# Altium schematic symbol library RC0603FR-07470RL.SchLib: 1 symbol
Pins are listed as number, name and electrical type; pins without a type are passive.

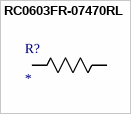
[diagram p0: symbol RC0603FR-07470RL]

## RC0603FR-07470RL
designator R?
No Description Available; Mfr_Name: Yageo
footprint RC0603N_YAG
pins: 1, 2